# EAGLE library part JS1400BFQ (library BadgeParts)
5-way SMD tactile switch
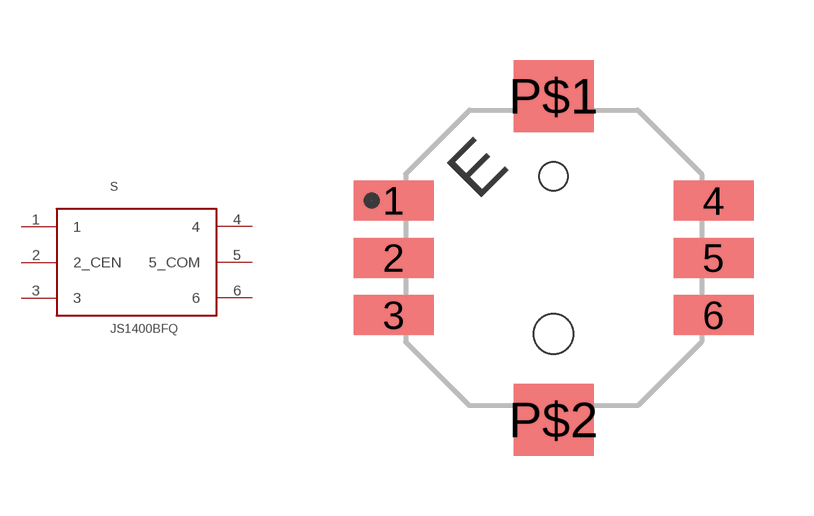
[diagram p6: symbol with the pads of JS1400BFQ; footprint JS1400BFQ]

Designator prefix S

## JS1400BFQ  [JS1400BFQ]
1  1
2  2_CEN
3  3
4  4
5  5_COM
6  6

## Footprint JS1400BFQ (pad centres in mm)
smd 2 x 1: 1 -4,1.43; 2 -4,0; 3 -4,-1.43; 4 4,1.43; 5 4,0; 6 4,-1.43
smd 2 x 1.8: P$1 0,4.05; P$2 0,-4.05
hole 0.991 at 0,-1.905
hole 0.711 at 0,2.032